# EAGLE library part ISPTOUCH (library remote)
ISPtouch for AVR Microcontrollers This 6-pin ISP connector for AVR programming does not require any part on the PCB, but an adapter for a common 6-pin programmer. http://daniel-spilker.com/blog/2011/04/25/isptouch-for-avr-microcontrollers/
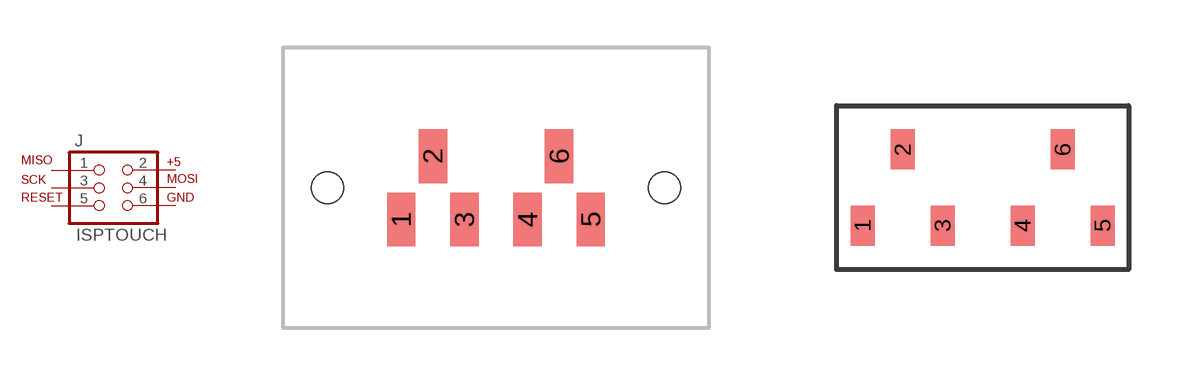
[diagram p1: symbol with the pads of AVX_9188_6-WAY_MATING_GUIDE; footprints AVX_9188_6-WAY_MATING_GUIDE, AVX_9188_6-WAY_SMT]

Designator prefix J

## ISPTOUCH_HEADER  [AVX_9188_6-WAY_MATING_GUIDE]
1  1  pas
2  2  pas
3  3  pas
4  4  pas
5  5  pas
6  6  pas

## ISPTOUCH_ADAPTER  [AVX_9188_6-WAY_SMT]
Pads as for AVX_9188_6-WAY_MATING_GUIDE

## Footprint AVX_9188_6-WAY_MATING_GUIDE (pad centres in mm)
smd 0.9 x 1.7: 1 -3,-1; 2 -2,1; 3 -1,-1; 4 1,-1; 5 3,-1; 6 2,1
hole 1 at -5.334,0
hole 1 at 5.334,0

## Footprint AVX_9188_6-WAY_SMT (pad centres in mm)
AVX 9188 Staggered SOLO Stacker 6-Way SMT PCB Footprint http://www.avx.com/docs/Catalogs/9188.pdf
smd 0.6 x 1: 1 -3,-0.95; 2 -2,0.95; 3 -1,-0.95; 4 1,-0.95; 5 3,-0.95; 6 2,0.95